# EAGLE library part MPM3820 (library ICs)
Non-Isolated PoL Module DC DC Converter 1 Output 0.6 ~ 6 V 2A 2.7V - 6V Input
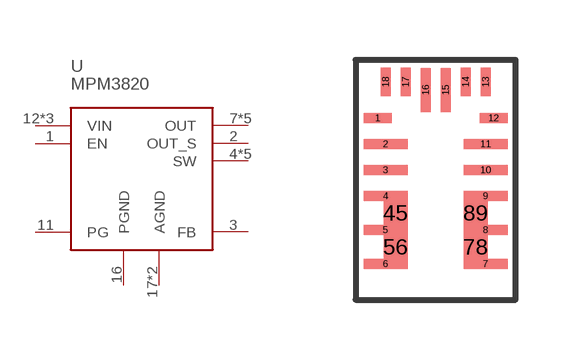
[diagram p197: symbol with the pads of MPM3820; footprint MPM3820]

Designator prefix U

## MPM3820GQV-Z (DIGIKEY: 1589-1770-1-ND; HEIGHT: 1.6; PRICE_PER: 2.35; VALUE: MPM3820)  [MPM3820]
1  EN
2  OUT_S
3  FB
4  SW
5  SW
6  SW
7  OUT
8  OUT
9  OUT
11  PG
12  VIN
13  VIN
14  VIN
16  PGND
17  AGND
18  AGND
45  SW
56  SW
78  OUT
89  OUT

## Footprint MPM3820 (pad centres in mm)
smd 0.7 x 0.25: 1 -1.45,1.55; 12 1.45,1.55
smd 1.1 x 0.25: 2 -1.25,0.9; 3 -1.25,0.25; 4 -1.25,-0.4; 5 -1.25,-1.25; 6 -1.25,-2.1; 7 1.25,-2.1; 8 1.25,-1.25; 9 1.25,-0.4; 10 1.25,0.25; 11 1.25,0.9
smd 0.25 x 0.7: 13 1.25,2.45; 14 0.75,2.45; 17 -0.75,2.45; 18 -1.25,2.45
smd 0.25 x 1.1: 15 0.25,2.25; 16 -0.25,2.25
smd 0.6 x 0.6: 45 -1,-0.825; 56 -1,-1.675; 78 1,-1.675; 89 1,-0.825